# EAGLE library part CYWUSB6934 (library My_bitfury1)
WirelessUSB LS 2.4 GHz DSSS Radio SoC Source: http://v4.cypress.com/cfuploads/img/products/cywusb6934.pdf
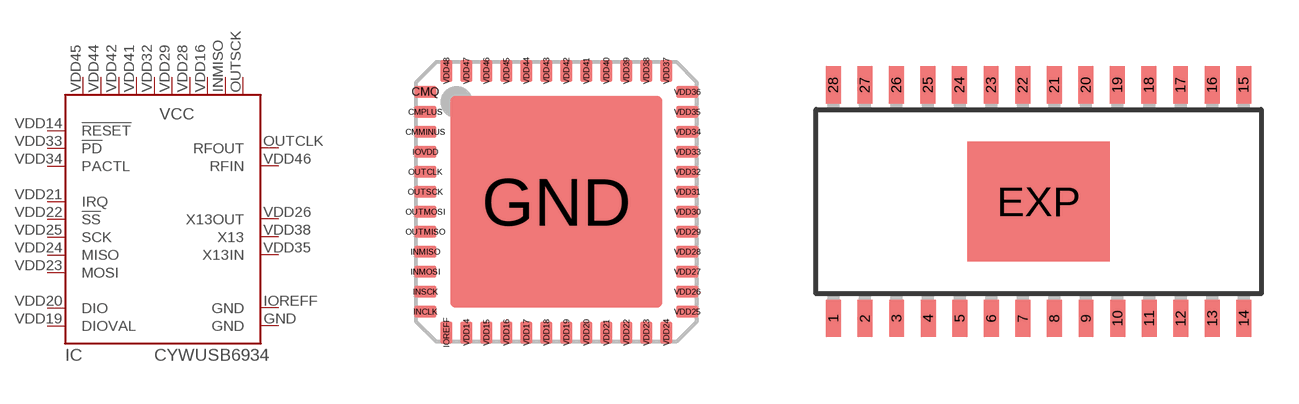
[diagram p5: symbol with the pads of QFN48; footprints QFN48, SOIC28-EPAD]

Designator prefix IC

## CYWUSB6934-48LFG  [QFN48]
GND  GND  pwr
INMISO  VCC  pwr
IOREFF  GND  pwr
OUTCLK  RFOUT  out
OUTSCK  VCC  pwr
VDD14  !RESET  in
VDD16  VCC  pwr
VDD19  DIOVAL
VDD20  DIO
VDD21  IRQ  hiz
VDD22  !SS  in
VDD23  MOSI  in
VDD24  MISO  hiz
VDD25  SCK  in
VDD26  X13OUT  out
VDD28  VCC  pwr
VDD29  VCC  pwr
VDD32  VCC  pwr
VDD33  !PD  in
VDD34  PACTL
VDD35  X13IN  in
VDD38  X13  in
VDD41  VCC  pwr
VDD42  VCC  pwr
VDD44  VCC  pwr
VDD45  VCC  pwr
VDD46  RFIN  in

## CYWUSB6934-SE28  [SOIC28-EPAD]
1  VCC  pwr
2  VCC  pwr
3  RFIN  in
6  RFOUT  out
7  VCC  pwr
8  VCC  pwr
9  GND  pwr
10  !RESET  in
11  VCC  pwr
12  DIOVAL
13  DIO
14  IRQ  hiz
15  !SS  in
16  MOSI  in
17  MISO  hiz
18  SCK  in
19  X13OUT  out
20  VCC  pwr
21  VCC  pwr
22  VCC  pwr
23  !PD  in
24  PACTL
25  X13IN  in
26  X13  in
27  VCC  pwr
28  VCC  pwr
EXP  GND  pwr

## Footprint QFN48 (pad centres in mm)
48-pin QFN 7 x 7 mm LF48 48 Quad Flat Package No Leads Source: http://v4.cypress.com/cfuploads/img/products/cywusb6934.pdf
smd 0.55 x 0.3: CMMINUS -3.275,1.75; CMPLUS -3.275,2.25; CMQ -3.275,2.75; INCLK -3.275,-2.75; INMISO -3.275,-1.25; INMOSI -3.275,-1.75; INSCK -3.275,-2.25; IOVDD -3.275,1.25; OUTCLK -3.275,0.75; OUTMISO -3.275,-0.75; OUTMOSI -3.275,-0.25; OUTSCK -3.275,0.25; VDD25 3.275,-2.75; VDD26 3.275,-2.25; VDD27 3.275,-1.75; VDD28 3.275,-1.25; VDD29 3.275,-0.75; VDD30 3.275,-0.25; VDD31 3.275,0.25; VDD32 3.275,0.75; VDD33 3.275,1.25; VDD34 3.275,1.75; VDD35 3.275,2.25; VDD36 3.275,2.75
smd 5.309 x 5.309: GND 0,0
smd 0.3 x 0.55: IOREFF -2.75,-3.275; VDD14 -2.25,-3.275; VDD15 -1.75,-3.275; VDD16 -1.25,-3.275; VDD17 -0.75,-3.275; VDD18 -0.25,-3.275; VDD19 0.25,-3.275; VDD20 0.75,-3.275; VDD21 1.25,-3.275; VDD22 1.75,-3.275; VDD23 2.25,-3.275; VDD24 2.75,-3.275; VDD37 2.75,3.275; VDD38 2.25,3.275; VDD39 1.75,3.275; VDD40 1.25,3.275; VDD41 0.75,3.275; VDD42 0.25,3.275; VDD43 -0.25,3.275; VDD44 -0.75,3.275; VDD45 -1.25,3.275; VDD46 -1.75,3.275; VDD47 -2.25,3.275; VDD48 -2.75,3.275

## Footprint SOIC28-EPAD (pad centres in mm)
28-pin (300-Mil) SOIC EPAD SE28.3 Source: http://v4.cypress.com/cfuploads/img/products/cywusb6934.pdf
smd 0.6 x 1.5: 1 -8.25,-4.7; 2 -6.98,-4.7; 3 -5.71,-4.7; 4 -4.44,-4.7; 5 -3.17,-4.7; 6 -1.9,-4.7; 7 -0.63,-4.7; 8 0.64,-4.7; 9 1.91,-4.7; 10 3.18,-4.7; 11 4.45,-4.7; 12 5.72,-4.7; 13 6.99,-4.7; 14 8.26,-4.7; 15 8.25,4.7; 16 6.98,4.7; 17 5.71,4.7; 18 4.44,4.7; 19 3.17,4.7; 20 1.9,4.7; 21 0.63,4.7; 22 -0.64,4.7; 23 -1.91,4.7; 24 -3.18,4.7; 25 -4.45,4.7; 26 -5.72,4.7; 27 -6.99,4.7; 28 -8.26,4.7
smd 5.715 x 4.826: EXP 0,0